# Altium schematic symbol library PIC12F675.SchLib: 1 symbol
Pins are listed as number, name and electrical type; pins without a type are passive.

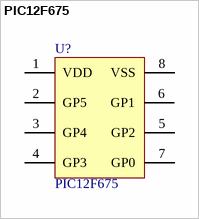
[diagram p0: symbol PIC12F675]

## PIC12F675
designator U?
Part Field 1: IC; Part Field 2: Microcontroller; Part Field 3: SO-8; Part Field 4: Microchip; Part Field 5: PIC12F675-I/SN; Part Field 6: 222-1163
footprint SO-8
pins: 1 VDD (power), 2 GP5, 3 GP4, 4 GP3, 5 GP2, 6 GP1, 7 GP0, 8 VSS (power)
2 alternate drawings of the same symbol